# Altium footprint library Robotics.PcbLib: 5 footprints
Each footprint in its own frame and in the unit in brackets; x right, y up, seen from the top. Pads: shape width x height; smd on the part's side, far side on the other; paste and mask are expansions set on the pad; w line width, h text height; cw(c..) or ccw(c..) is an arc to the next point about the centre after c.
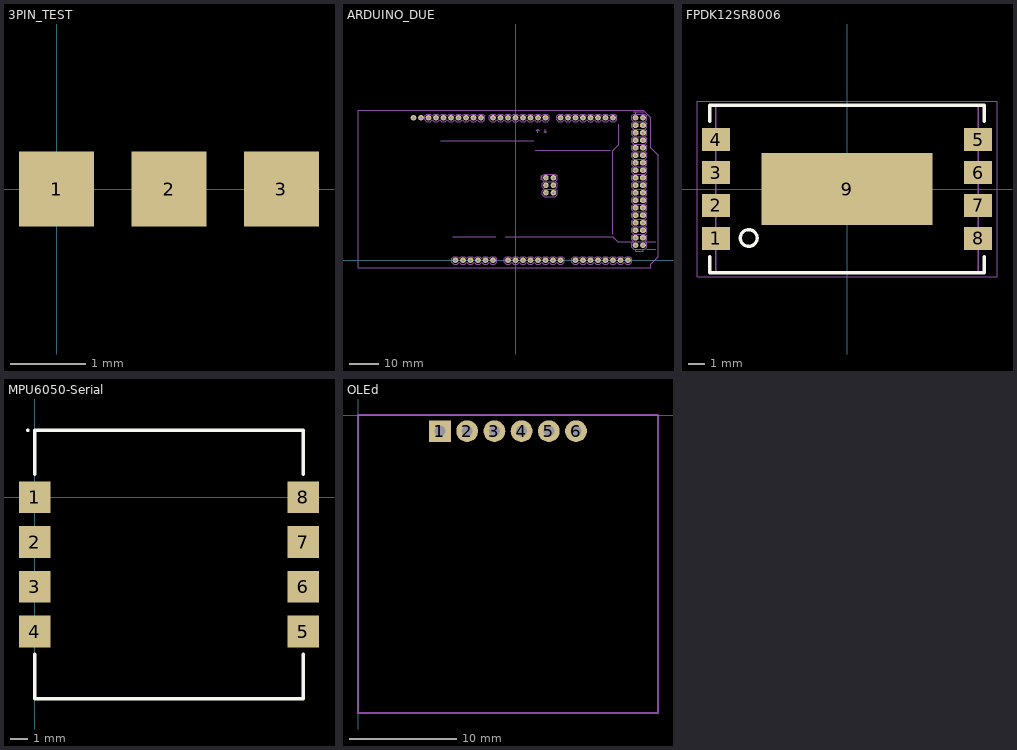
[diagram p0: the footprints below, top view; thin cyan lines are the x and y axes]

## 3PIN_TEST [mm]
pads (3):
  rect 1x1 smd: 1(0,0) 2(1.5,0) 3(3,0)

## ARDUINO_DUE [mil]
pads (90):
  round 74 hole 40: 0(400,1900) 1(300,1900) 2(200,1900) 3(100,1900) 3.3V(-700,0) 4(0,1900) 5(-100,1900) 5V@0(-600,0) 5V@1(1600,1900) 5V@2(1700,1900) 6(-200,1900) 7(-300,1900) 8(-460,1900) 9(-560,1900) 10(-660,1900) 11(-760,1900) 12(-860,1900) 13(-960,1900) 14(600,1900) 15(700,1900) 16(800,1900) 17(900,1900) 18(1000,1900) 19(1100,1900) 20(1200,1900) 21(1300,1900) -1(405.1,899.87) -1(505.1,899.87) -1(505.1,1099.87) A0(-100,0) A1(0,0) A2(100,0) A3(200,0) A4(300,0) A5(400,0) A6(500,0) A7(600,0) A8(800,0) A9(900,0) A10(1000,0) A11(1100,0) A12(1200,0) A13(1300,0) A14(1400,0) A15(1500,0) AREF(-1160,1900) GND@0(-500,0) GND@1(-400,0) GND@2(1600,200) GND@3(1700,200) GND@4(-1060,1900) MISO(405.1,1099.87) MOSI(505.1,999.87) RESET(-800,0) SCK(405.1,999.87) SCL1(-1360,1900) SDA1(-1260,1900) VIN(-300,0)
  oct 74x74 hole 40: 22(1600,1800) 23(1700,1800) 24(1600,1700) 25(1700,1700) 26(1600,1600) 27(1700,1600) 28(1600,1500) 29(1700,1500) 30(1600,1400) 31(1700,1400) 32(1600,1300) 33(1700,1300) 34(1600,1200) 35(1700,1200) 36(1600,1100) 37(1700,1100) 38(1600,1000) 39(1700,1000) 40(1600,900) 41(1700,900) 42(1600,800) 43(1700,800) 44(1600,700) 45(1700,700) 46(1600,600) 47(1700,600) 48(1600,500) 49(1700,500) 50(1600,400) 51(1700,400) 52(1600,300) 53(1700,300)
Mechanical 3:
  drawing of 558 lines, arcs and shapes, not listed
  text "5V" at 1500,1950 h29.75
  text "AREF" at -1185,1830 h47.6
  text "GND" at -1090,1830 h47.6
  text "Vin" at -280,81 h34
  text "GND" at -380,81 h34
  text "GND" at -480,81 h34
  text "5V" at -580,81 h34
  text "3.3V" at -680,81 h34
  text "RESET" at -780,81 h34
  text "POWER" at -540,220 h51
  text "SCL" at 1315,1580 h34
  text "SDA" at 1215,1580 h34
  text "RX1" at 1115,1580 h34
  text "TX1" at 1015,1580 h34
  text "RX2" at 915,1580 h34
  text "TX2" at 815,1580 h34
  text "RX3" at 715,1580 h34
  text "TX3" at 615,1580 h34
  text "PWM" at -950,1625 h51
  text "RX0" at 415,1580 h34
  text "TX0" at 315,1580 h34
  text "GND" at 1775,171 h34
  text "DIGITAL" at 1385,360 h51
  text "ANALOG IN" at -90,220 h51
  text "CTX" at 1532.14,73.86 h47.6
  text "CRX" at 1430,81 h47.6
  text "DAC1" at 1330,81 h47.6
  text "DAC0" at 1230,81 h47.6
  text "A11" at 1130,81 h47.6
  text "A10" at 1030,81 h47.6
  text "A9" at 930,81 h47.6
  text "A8" at 830,81 h47.6
  text "A7" at 630,81 h47.6
  text "6" at 525,81 h47.6
  text "A5" at 425,81 h47.6
  text "A4" at 330,81 h47.6
  text "A3" at 230,81 h47.6
  text "A2" at 130,81 h47.6
  text "A1" at 20,81 h47.6
  text "A0" at -70,81 h47.6
  text "53" at 1775,271 h47.6
  text "51" at 1775,371 h47.6
  text "49" at 1775,471 h47.6
  text "47" at 1775,571 h47.6
  text "45" at 1775,671 h47.6
  text "43" at 1775,771 h47.6
  text "41" at 1775,871 h47.6
  text "39" at 1775,971 h47.6
  text "37" at 1775,1071 h47.6
  text "35" at 1775,1171 h47.6
  text "33" at 1775,1271 h47.6
  text "31" at 1775,1371 h47.6
  text "52" at 1431,270 h47.6
  text "48" at 1431,470 h47.6
  text "50" at 1431,370 h47.6
  text "46" at 1431,570 h47.6
  text "44" at 1431,670 h47.6
  text "42" at 1431,770 h47.6
  text "40" at 1431,870 h47.6
  text "38" at 1431,970 h47.6
  text "36" at 1431,1070 h47.6
  text "34" at 1431,1170 h47.6
  text "32" at 1431,1270 h47.6
  text "30" at 1431,1370 h47.6
  text "28" at 1431,1470 h47.6
  text "26" at 1431,1570 h47.6
  text "24" at 1431,1670 h47.6
  text "22" at 1431,1770 h47.6
  text "21" at 1315,1745 h47.6
  text "20" at 1215,1745 h47.6
  text "19" at 1115,1745 h47.6
  text "18" at 1015,1745 h47.6
  text "17" at 915,1745 h47.6
  text "16" at 815,1745 h47.6
  text "15" at 715,1745 h47.6
  text "14" at 615,1745 h47.6
  text "13" at -935,1730 h47.6
  text "12" at -835,1730 h47.6
  text "11" at -735,1730 h47.6
  text "10" at -635,1730 h47.6
  text "9" at -535,1780 h47.6
  text "8" at -435,1780 h47.6
  text "7" at -285,1780 h47.6
  text "6" at -185,1780 h47.6
  text "5" at -85,1780 h47.6
  text "4" at 15,1780 h47.6
  text "3" at 115,1780 h47.6
  text "2" at 215,1780 h47.6
  text "1" at 315,1780 h47.6
  text "0" at 415,1780 h47.6
  text "COMMUNICATION" at 280,1485 h51

## FPDK12SR8006 [mm]
height 0.6
pads (9):
  rect 1.7x1.4 smd: 1(-7.975,-3) 2(-7.975,-1) 3(-7.975,1) 4(-7.975,3) 5(7.975,3) 6(7.975,1) 7(7.975,-1) 8(7.975,-3)
  rect 10.4x4.4 smd: 9(0,0)
Top Overlay:
  circle w0.2: c-5.975,-2.98 r0.51
  lines w0.2: -8.35,-4.1 -8.35,-5.1 8.35,-5.1 8.35,-4.1 ; -8.35,4.1 -8.35,5.1 8.35,5.1 8.35,4.1
Mechanical 13:
  lines w0.1: -7.975,-5.1 -7.975,-3.6 ccw(c-7.975,-3) -7.975,-2.4 -7.975,-1.6 ccw(c-7.975,-1) -7.975,-0.4 -7.975,0.4 ccw(c-7.975,1) -7.975,1.6 -7.975,2.4 ccw(c-7.975,3) -7.975,3.6 -7.975,5.1 7.975,5.1 7.975,3.6 ccw(c7.975,3) 7.975,2.4 7.975,1.6 ccw(c7.975,1) 7.975,0.4 7.975,-0.4 ccw(c7.975,-1) 7.975,-1.6 7.975,-2.4 ccw(c7.975,-3) 7.975,-3.6 7.975,-5.1 -7.975,-5.1
Mechanical 15:
  lines w0.05: -9.12,-5.35 -9.12,5.35 9.12,5.35 9.12,-5.35 -9.12,-5.35
  lines w0.1: -0.5,0 0.5,0 ; 0,-0.5 0,0.5
3D body: height 0.6, standoff 0, extent -8.35,-5.1 8.35,5.1

## MPU6050-Serial [mm]
height 1
pads (8):
  rect 1.8x1.8 smd: 1(0,0) 2(0,-2.54) 3(0,-5.08) 4(0,-7.62) 5(15.24,-7.62) 6(15.24,-5.08) 7(15.24,-2.54) 8(15.24,0)
Top Overlay:
  circle w0.1: c-0.4,3.81 r0.05
  lines w0.2: 0,-8.92 0,-11.43 15.24,-11.43 15.24,-8.92 ; 0,1.3 0,3.81 15.24,3.81 15.24,1.3
3D body: height 1, standoff 0, extent 0,-11.43 15.24,3.81

## OLEd [mil]
pads (6):
  rect 80x80 hole 40: 1(301.18,-59.06)
  round 80 hole 40: 2(401.18,-59.06) 3(501.18,-59.06) 4(601.18,-59.06) 5(701.18,-59.06) 6(801.18,-59.06)
Mechanical 13:
  lines w7.87: 0,-1094.49 1102.36,-1094.49 1102.36,0 0,0 0,-1094.49